# Altium schematic symbol library PRL1632-R006-F-T1.SchLib: 1 symbol
Pins are listed as number, name and electrical type; pins without a type are passive.

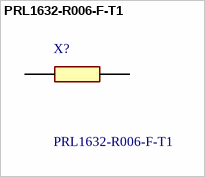
[diagram p0: symbol PRL1632-R006-F-T1]

## PRL1632-R006-F-T1
designator X?
Current Sense Resistors - SMD 1W 0.006ohm 1%; Manufacturer_Name: Susumu; Geometry.Height: 0.6mm; Manufacturer_Part_Number: PRL1632-R006-F-T1; Mouser Part Number: 754-PRL1632-R006-FT1; Mouser Price/Stock: https://www.mouser.co.uk/ProductDetail/Susumu/PRL1632-R006-F-T1?qs=juJhw1yPxAHGKYokg5pJ8Q%3D%3D; Arrow Part Number: PRL1632-R006-F-T1; Arrow Price/Stock: https://www.arrow.com/en/products/prl1632-r006-f-t1/susumu; Datasheet Link: https://componentsearchengine.com/Datasheets/1/PRL1632-R006-F-T1.pdf
footprint RESC1632X60N
pins: 1, 2